# EAGLE library part G6S-2H (library STM32-PROX)
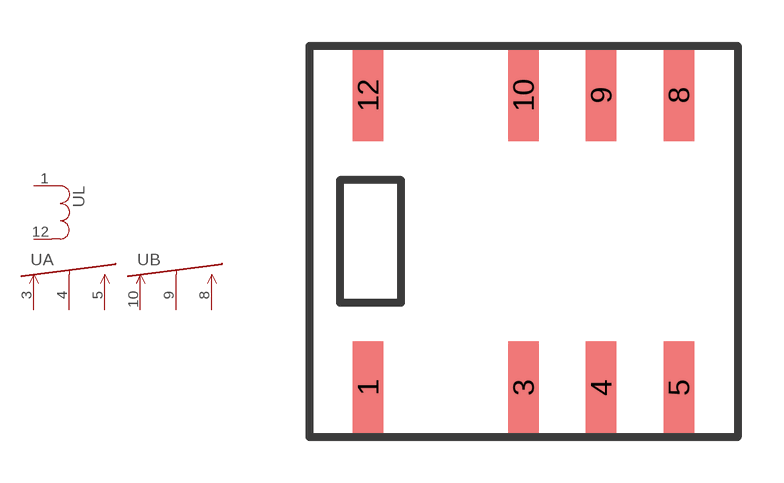
[diagram p19: symbol with the pads of G6S-2F; footprint G6S-2F]

Designator prefix -; gates L=RELAY-COIL A=RELAY-NO-NC B=RELAY-NO-NC

## G6S-2H  [G6S-2F]
1  L:P$1  pas
3  A:NC  pas
4  A:COM  pas
5  A:NO  pas
8  B:NO  pas
9  B:COM  pas
10  B:NC  pas
12  L:P$2  pas

## Footprint G6S-2F (pad centres in mm)
smd 1 x 3: 1 -5.08,-4.78; 3 0,-4.78; 4 2.54,-4.78; 5 5.08,-4.78; 8 5.08,4.78; 9 2.54,4.78; 10 0,4.78; 12 -5.08,4.78